# Altium footprint library E220Lora.PcbLib: 1 footprints
Each footprint in its own frame and in the unit in brackets; x right, y up, seen from the top. Pads: shape width x height; smd on the part's side, far side on the other; paste and mask are expansions set on the pad; w line width, h text height; cw(c..) or ccw(c..) is an arc to the next point about the centre after c.
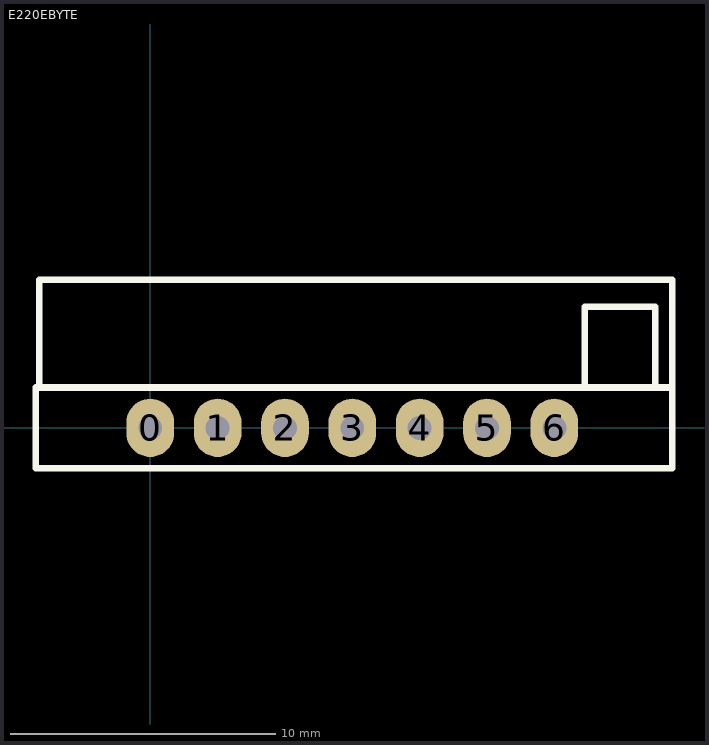
[diagram p0: the footprint, top view; thin cyan lines are the x and y axes]

## E220EBYTE [mm]
pads (7):
  oval 1.8x2.2 hole 0.9: 0(0,0) 1(2.54,0) 2(5.08,0) 3(7.62,0) 4(10.16,0) 5(12.7,0) 6(15.24,0)
Top Overlay:
  lines w0.254: 16.383,1.524 16.383,4.572 19.05,4.572 19.05,1.651 ; -4.318,1.524 -4.318,-1.524 19.685,-1.524 19.685,1.524 ; -4.318,1.524 19.685,1.524 ; -4.318,1.524 -4.191,1.524 -4.191,5.588 19.685,5.588 19.685,1.524
3D body "e220Lora.STEP": height 8.18, standoff -5.33, extent -4.318,-1.524 19.682,50.976